# Altium footprint library 744771008.PcbLib: 1 footprints
Each footprint in its own frame and in the unit in brackets; x right, y up, seen from the top. Pads: shape width x height; smd on the part's side, far side on the other; paste and mask are expansions set on the pad; w line width, h text height; cw(c..) or ccw(c..) is an arc to the next point about the centre after c.
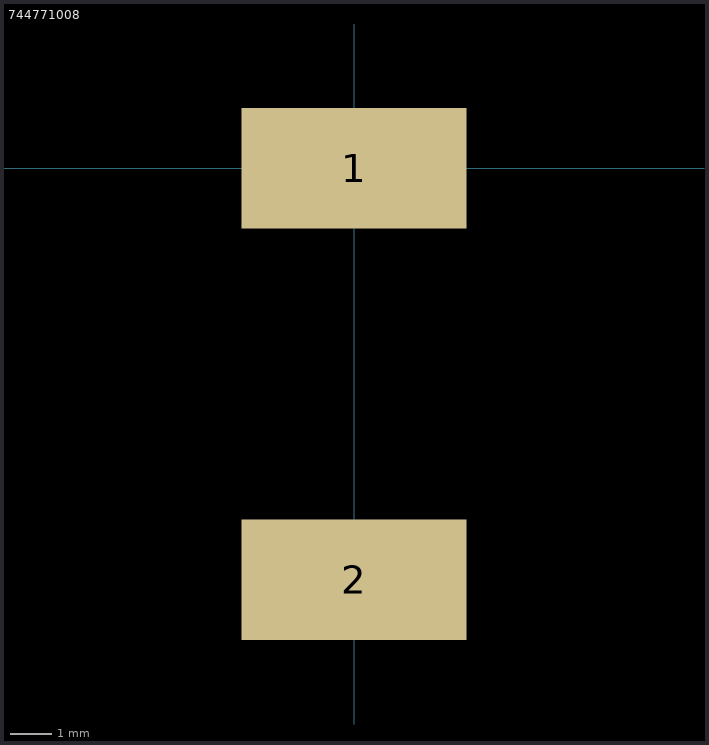
[diagram p0: the footprint, top view; thin cyan lines are the x and y axes]

## 744771008 [mm]
pads (2):
  rect 5.4x2.9 smd: 1(0,0) 2(0,-9.9)
3D body: height 6, standoff 0, extent -6.096,-11.43 5.969,1.524